# Altium footprint library rcl_PTH.PCBLIB: 348 footprints (part 5 of 22)
Each footprint in its own frame and in the unit in brackets; x right, y up, seen from the top. Pads: shape width x height; smd on the part's side, far side on the other; paste and mask are expansions set on the pad; w line width, h text height; cw(c..) or ccw(c..) is an arc to the next point about the centre after c.
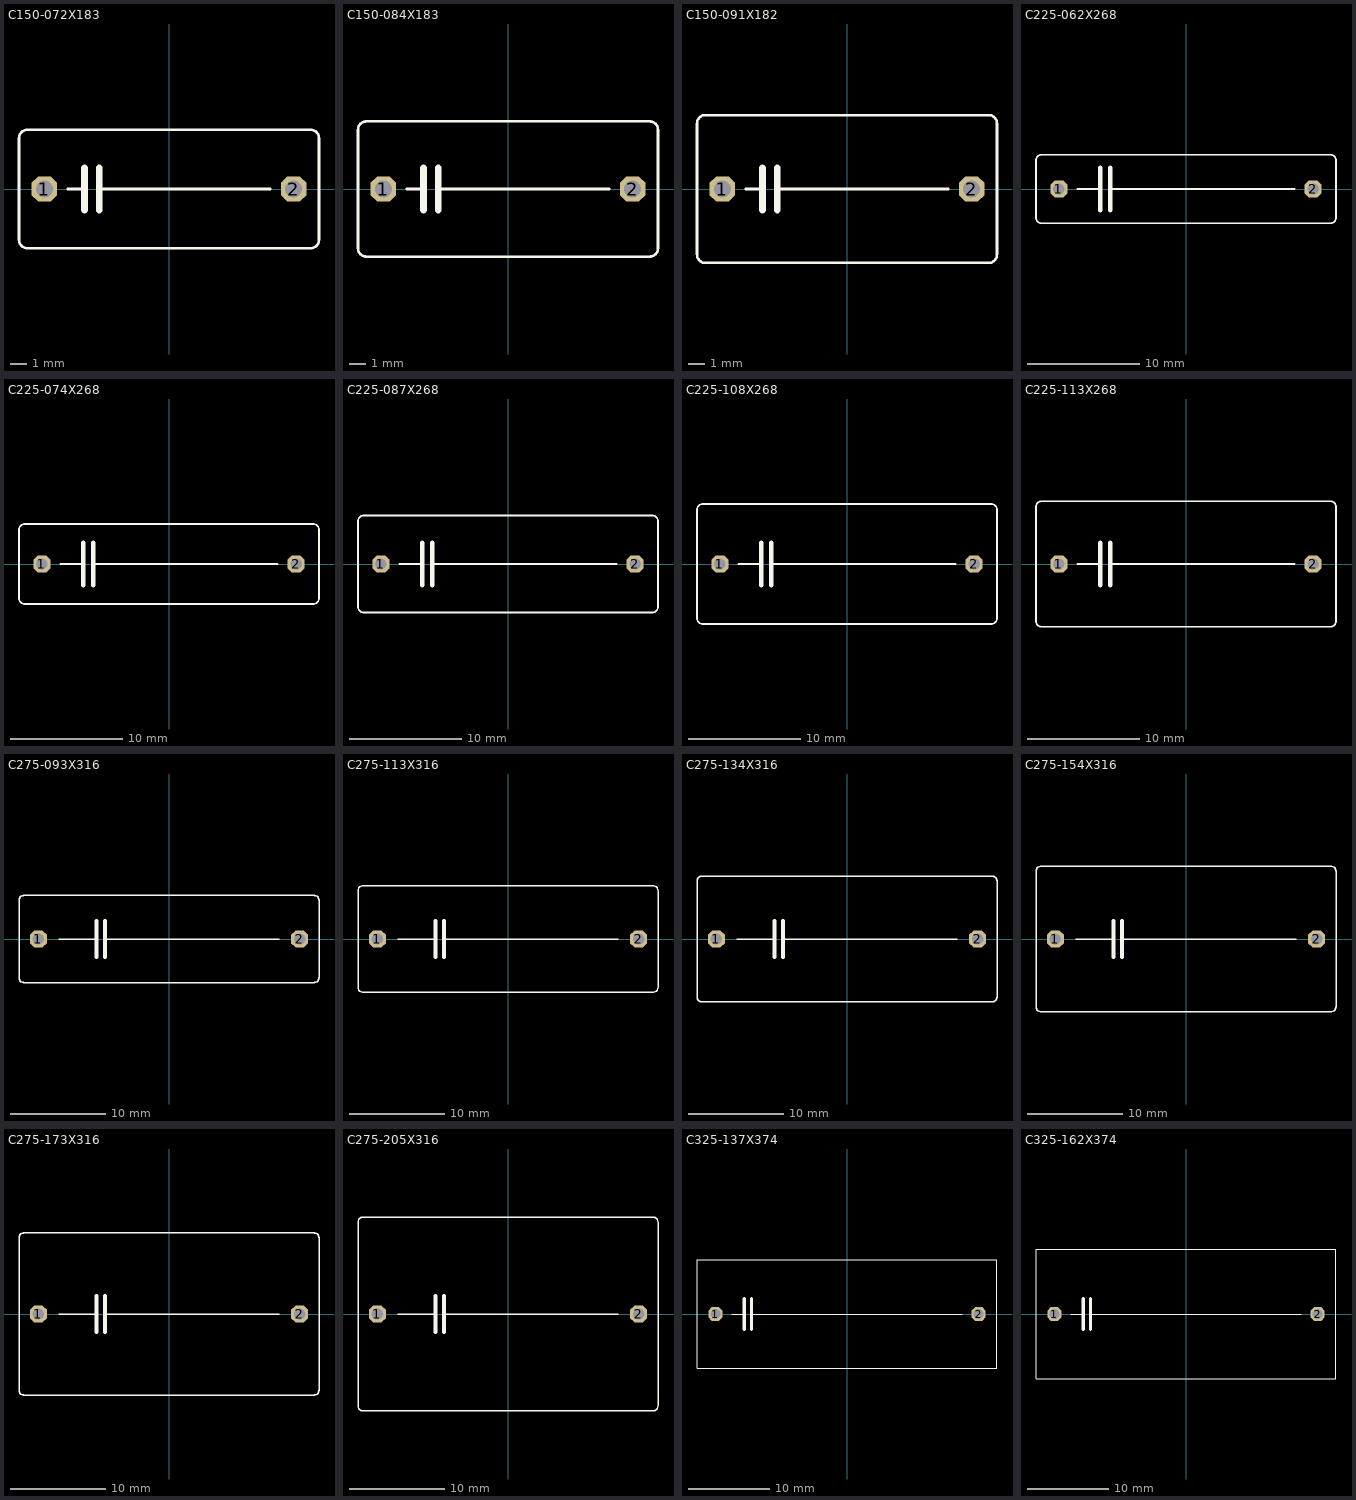
[diagram p4: the footprints below, top view; thin cyan lines are the x and y axes]

## C150-072X183 [mil]
pads (2):
  oct 60x60 hole 40: 1(-295,0) 2(295,0)
Top Overlay:
  lines w6: -240,0 -200,0 ; -165,0 240,0 ; -355,-120 ccw(c-335,-120) -335,-140 335,-140 ccw(c335,-120) 355,-120 355,120 ccw(c335,120) 335,140 -335,140 ccw(c-335,120) -355,120 -355,-120
  lines w16: -200,-50 -200,0 -200,50 ; -165,-50 -165,0 -165,50

## C150-084X183 [mil]
pads (2):
  oct 60x60 hole 40: 1(-295,0) 2(295,0)
Top Overlay:
  lines w6: -240,0 -200,0 ; -165,0 240,0 ; -355,-140 ccw(c-335,-140) -335,-160 335,-160 ccw(c335,-140) 355,-140 355,140 ccw(c335,140) 335,160 -335,160 ccw(c-335,140) -355,140 -355,-140
  lines w16: -200,-50 -200,0 -200,50 ; -165,-50 -165,0 -165,50

## C150-091X182 [mil]
pads (2):
  oct 60x60 hole 40: 1(-295,0) 2(295,0)
Top Overlay:
  lines w6: -240,0 -200,0 ; -165,0 240,0 ; -355,-155 ccw(c-335,-155) -335,-175 335,-175 ccw(c335,-155) 355,-155 355,155 ccw(c335,155) 335,175 -335,175 ccw(c-335,155) -355,155 -355,-155
  lines w16: -200,-50 -200,0 -200,50 ; -165,-50 -165,0 -165,50

## C225-062X268 [mil]
pads (2):
  oct 60x60 hole 40: 1(-445,0) 2(445,0)
Top Overlay:
  lines w6: -380,0 -300,0 ; -265,0 380,0 ; -525,-100 ccw(c-505,-100) -505,-120 505,-120 ccw(c505,-100) 525,-100 525,100 ccw(c505,100) 505,120 -505,120 ccw(c-505,100) -525,100 -525,-100
  lines w16: -300,-75 -300,0 -300,75 ; -265,-75 -265,0 -265,75

## C225-074X268 [mil]
pads (2):
  oct 60x60 hole 40: 1(-445,0) 2(445,0)
Top Overlay:
  lines w6: -380,0 -300,0 ; -265,0 380,0 ; -525,-120 ccw(c-505,-120) -505,-140 505,-140 ccw(c505,-120) 525,-120 525,120 ccw(c505,120) 505,140 -505,140 ccw(c-505,120) -525,120 -525,-120
  lines w16: -300,-75 -300,0 -300,75 ; -265,-75 -265,0 -265,75

## C225-087X268 [mil]
pads (2):
  oct 60x60 hole 40: 1(-445,0) 2(445,0)
Top Overlay:
  lines w6: -380,0 -300,0 ; -265,0 380,0 ; -525,-150 ccw(c-505,-150) -505,-170 505,-170 ccw(c505,-150) 525,-150 525,150 ccw(c505,150) 505,170 -505,170 ccw(c-505,150) -525,150 -525,-150
  lines w16: -300,-75 -300,0 -300,75 ; -265,-75 -265,0 -265,75

## C225-108X268 [mil]
pads (2):
  oct 60x60 hole 40: 1(-445,0) 2(445,0)
Top Overlay:
  lines w6: -380,0 -300,0 ; -265,0 380,0 ; -525,-190 ccw(c-505,-190) -505,-210 505,-210 ccw(c505,-190) 525,-190 525,190 ccw(c505,190) 505,210 -505,210 ccw(c-505,190) -525,190 -525,-190
  lines w16: -300,-75 -300,0 -300,75 ; -265,-75 -265,0 -265,75

## C225-113X268 [mil]
pads (2):
  oct 60x60 hole 40: 1(-445,0) 2(445,0)
Top Overlay:
  lines w6: -380,0 -300,0 ; -265,0 380,0 ; -525,-200 ccw(c-505,-200) -505,-220 505,-220 ccw(c505,-200) 525,-200 525,200 ccw(c505,200) 505,220 -505,220 ccw(c-505,200) -525,200 -525,-200
  lines w16: -300,-75 -300,0 -300,75 ; -265,-75 -265,0 -265,75

## C275-093X316 [mil]
pads (2):
  oct 70.5x70.5 hole 47: 1(-540,0) 2(540,0)
Top Overlay:
  lines w6: -455,0 -300,0 ; -265,0 455,0 ; -620,-160 ccw(c-600,-160) -600,-180 600,-180 ccw(c600,-160) 620,-160 620,160 ccw(c600,160) 600,180 -600,180 ccw(c-600,160) -620,160 -620,-160
  lines w16: -300,-75 -300,0 -300,75 ; -265,-75 -265,0 -265,75

## C275-113X316 [mil]
pads (2):
  oct 70.5x70.5 hole 47: 1(-540,0) 2(540,0)
Top Overlay:
  lines w6: -455,0 -300,0 ; -265,0 455,0 ; -620,-200 ccw(c-600,-200) -600,-220 600,-220 ccw(c600,-200) 620,-200 620,200 ccw(c600,200) 600,220 -600,220 ccw(c-600,200) -620,200 -620,-200
  lines w16: -300,-75 -300,0 -300,75 ; -265,-75 -265,0 -265,75

## C275-134X316 [mil]
pads (2):
  oct 70.5x70.5 hole 47: 1(-540,0) 2(540,0)
Top Overlay:
  lines w6: -455,0 -300,0 ; -265,0 455,0 ; -620,-240 ccw(c-600,-240) -600,-260 600,-260 ccw(c600,-240) 620,-240 620,240 ccw(c600,240) 600,260 -600,260 ccw(c-600,240) -620,240 -620,-240
  lines w16: -300,-75 -300,0 -300,75 ; -265,-75 -265,0 -265,75

## C275-154X316 [mil]
pads (2):
  oct 70.5x70.5 hole 47: 1(-540,0) 2(540,0)
Top Overlay:
  lines w6: -455,0 -300,0 ; -265,0 455,0 ; -620,-280 ccw(c-600,-280) -600,-300 600,-300 ccw(c600,-280) 620,-280 620,280 ccw(c600,280) 600,300 -600,300 ccw(c-600,280) -620,280 -620,-280
  lines w16: -300,-75 -300,0 -300,75 ; -265,-75 -265,0 -265,75

## C275-173X316 [mil]
pads (2):
  oct 70.5x70.5 hole 47: 1(-540,0) 2(540,0)
Top Overlay:
  lines w6: -455,0 -300,0 ; -265,0 455,0 ; -620,-315 ccw(c-600,-315) -600,-335 600,-335 ccw(c600,-315) 620,-315 620,315 ccw(c600,315) 600,335 -600,335 ccw(c-600,315) -620,315 -620,-315
  lines w16: -300,-75 -300,0 -300,75 ; -265,-75 -265,0 -265,75

## C275-205X316 [mil]
pads (2):
  oct 70.5x70.5 hole 47: 1(-540,0) 2(540,0)
Top Overlay:
  lines w6: -455,0 -300,0 ; -265,0 455,0 ; -620,-380 ccw(c-600,-380) -600,-400 600,-400 ccw(c600,-380) 620,-380 620,380 ccw(c600,380) 600,400 -600,400 ccw(c-600,380) -620,380 -620,-380
  lines w16: -300,-75 -300,0 -300,75 ; -265,-75 -265,0 -265,75

## C325-137X374 [mil]
pads (2):
  oct 70.5x70.5 hole 47: 1(-640,0) 2(640,0)
Top Overlay:
  lines w6: -562,0 -500,0 ; -465,0 562,0 ; -730,-265 730,-265 730,265 -730,265 -730,-265
  lines w16: -500,-75 -500,0 -500,75 ; -465,-75 -465,0 -465,75

## C325-162X374 [mil]
pads (2):
  oct 70.5x70.5 hole 47: 1(-640,0) 2(640,0)
Top Overlay:
  lines w6: -562,0 -500,0 ; -465,0 562,0 ; -730,-315 730,-315 730,315 -730,315 -730,-315
  lines w16: -500,-75 -500,0 -500,75 ; -465,-75 -465,0 -465,75